# Altium schematic symbol library Lib_Example_2.SchLib: 3 symbols
Pins are listed as number, name and electrical type; pins without a type are passive.

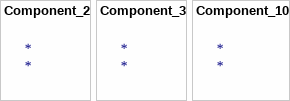
[diagram p0: symbols Component_2 to Component_10]

## Component_2
designator *

## Component_3
designator *
Cost: *

## Component_10
designator *